# Altium footprint library IHLP2525CZER4R7M01.PcbLib: 3 footprints
Each footprint in its own frame and in the unit in brackets; x right, y up, seen from the top. Pads: shape width x height; smd on the part's side, far side on the other; paste and mask are expansions set on the pad; w line width, h text height; cw(c..) or ccw(c..) is an arc to the next point about the centre after c.
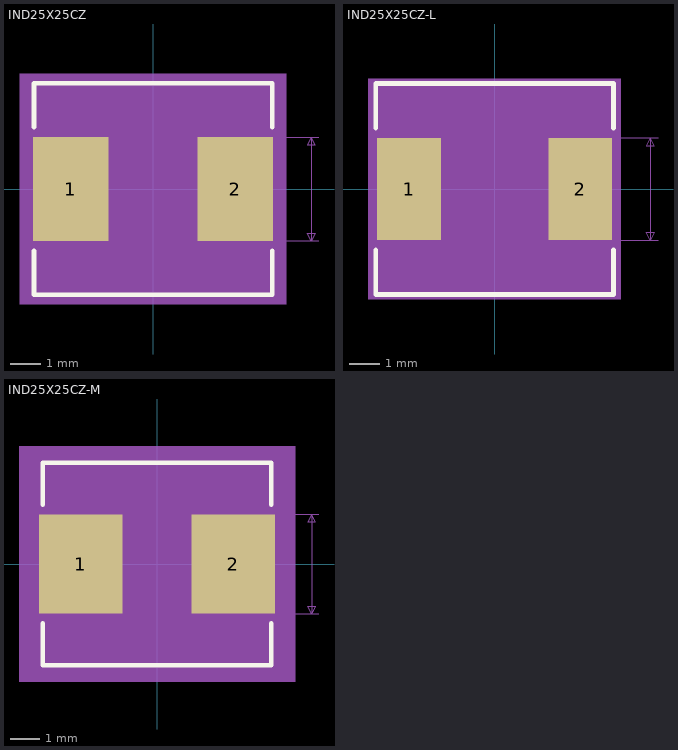
[diagram p0: the footprints below, top view; thin cyan lines are the x and y axes]

## IND25X25CZ [mil]
pads (2):
  rect 98x135 smd: 1(-107,0) 2(107,0)
Top Overlay:
  lines w6: -155,-80.6 -155,-137.5 155,-137.5 155,-80.6 ; -155,80.6 -155,137.5 155,137.5 155,80.6
Mechanical 5:
  region: 173.5,-150 -173.5,-150 -173.5,150 173.5,150
Mechanical 7:
  lines w1: -156,77.5 -156,127.5 ; -58,-127.5 -58,-77.5 ; 58,-127.5 58,-77.5 ; 156,77.5 156,127.5 ; 166,-67.5 216,-67.5 ; 166,67.5 216,67.5 ; -156,117.5 156,117.5 ; -156,117.5 -146,122.5 -146,112.5 -156,117.5 ; -58,-117.5 58,-117.5 ; -58,-117.5 -48,-122.5 -48,-112.5 -58,-117.5 ; 58,-117.5 48,-122.5 48,-112.5 58,-117.5 ; 156,117.5 146,122.5 146,112.5 156,117.5 ; 206,-67.5 206,67.5 ; 206,-67.5 201,-57.5 211,-57.5 206,-67.5 ; 206,67.5 201,57.5 211,57.5 206,67.5
  text "Default Padstyle: RX98Y135D0T" at -362.5,-237.5 h50
  text "Alt 1 Padstyle: OX60Y90D30P" at -337.5,-297.5 h50
  text "Alt 2 Padstyle: OX90Y60D30P" at -337.5,-357.5 h50
  text ".312in/7.925mm" at -87.5,117.5 h25
  text ".116in/2.946mm" at -87.5,-152.5 h25
  text ".135in/3.429mm" at 216,-12.5 h25
Mechanical 13:
  lines w1: -150,-132.5 150,-132.5 150,132.5 -150,132.5 -150,-132.5
Mechanical 15:
  region: -160,-77.5 -166,-77.5 -166,77.5 -160,77.5 -160,142.5 160,142.5 160,77.5 166,77.5 166,-77.5 160,-77.5 160,-142.5 -160,-142.5
  region: 150,-132.5 -150,-132.5 -150,132.5 150,132.5
  lines w6: -166,-77.5 -166,77.5 -160,77.5 -160,142.5 160,142.5 160,77.5 166,77.5 166,-77.5 160,-77.5 160,-142.5 -160,-142.5 -160,-77.5 -166,-77.5
3D body: height 10, standoff 0, extent 0,0 10,10

## IND25X25CZ-L [mil]
pads (2):
  rect 83x133 smd paste+0 mask+0: 1(-111.5,0) 2(111.5,0)
Top Overlay:
  lines w6: -155,-79.45 -155,-137.5 155,-137.5 155,-79.45 ; -155,79.45 -155,137.5 155,137.5 155,79.45
Mechanical 5:
  region: 164.5,-144 -164.5,-144 -164.5,144 164.5,144
Mechanical 7:
  lines w1: -153,76.5 -153,126.5 ; -70,-126.5 -70,-76.5 ; 70,-126.5 70,-76.5 ; 153,76.5 153,126.5 ; 163,-66.5 213,-66.5 ; 163,66.5 213,66.5 ; -153,116.5 153,116.5 ; -153,116.5 -143,121.5 -143,111.5 -153,116.5 ; -70,-116.5 70,-116.5 ; -70,-116.5 -60,-121.5 -60,-111.5 -70,-116.5 ; 70,-116.5 60,-121.5 60,-111.5 70,-116.5 ; 153,116.5 143,121.5 143,111.5 153,116.5 ; 203,-66.5 203,66.5 ; 203,-66.5 198,-56.5 208,-56.5 203,-66.5 ; 203,66.5 198,56.5 208,56.5 203,66.5
  text "Default Padstyle: RX83Y133D0T" at -362.5,-236.5 h50
  text "Alt 1 Padstyle: OX60Y90D30P" at -337.5,-296.5 h50
  text "Alt 2 Padstyle: OX90Y60D30P" at -337.5,-356.5 h50
  text ".306in/7.772mm" at -87.5,116.5 h25
  text ".14in/3.556mm" at -81.25,-151.5 h25
  text ".133in/3.378mm" at 213,-12.5 h25
Mechanical 13:
  lines w1: -150,-132.5 150,-132.5 150,132.5 -150,132.5 -150,-132.5
Mechanical 15:
  region: -154,-71.5 -157,-71.5 -157,71.5 -154,71.5 -154,136.5 154,136.5 154,71.5 157,71.5 157,-71.5 154,-71.5 154,-136.5 -154,-136.5
  region: 150,-132.5 -150,-132.5 -150,132.5 150,132.5
  lines w6: -157,-71.5 -157,71.5 -154,71.5 -154,136.5 154,136.5 154,71.5 157,71.5 157,-71.5 154,-71.5 154,-136.5 -154,-136.5 -154,-71.5 -157,-71.5
3D body: height 10, standoff 0, extent 0,0 10,10

## IND25X25CZ-M [mil]
pads (2):
  rect 113x135 smd paste+0 mask+0: 1(-103.5,0) 2(103.5,0)
Top Overlay:
  lines w6: -155,-80.6 -155,-137.5 155,-137.5 155,-80.6 ; -155,80.6 -155,137.5 155,137.5 155,80.6
Mechanical 5:
  region: 187.5,-160 -187.5,-160 -187.5,160 187.5,160
Mechanical 7:
  lines w1: -160,77.5 -160,127.5 ; -47,-127.5 -47,-77.5 ; 47,-127.5 47,-77.5 ; 160,77.5 160,127.5 ; 170,-67.5 220,-67.5 ; 170,67.5 220,67.5 ; -160,117.5 160,117.5 ; -160,117.5 -150,122.5 -150,112.5 -160,117.5 ; -47,-117.5 47,-117.5 ; -47,-117.5 -37,-122.5 -37,-112.5 -47,-117.5 ; 47,-117.5 37,-122.5 37,-112.5 47,-117.5 ; 160,117.5 150,122.5 150,112.5 160,117.5 ; 210,-67.5 210,67.5 ; 210,-67.5 205,-57.5 215,-57.5 210,-67.5 ; 210,67.5 205,57.5 215,57.5 210,67.5
  text "Default Padstyle: RX113Y135D0T" at -375,-237.5 h50
  text "Alt 1 Padstyle: OX60Y90D30P" at -337.5,-297.5 h50
  text "Alt 2 Padstyle: OX90Y60D30P" at -337.5,-357.5 h50
  text ".32in/8.128mm" at -81.25,117.5 h25
  text ".094in/2.388mm" at -87.5,-152.5 h25
  text ".135in/3.429mm" at 220,-12.5 h25
Mechanical 13:
  lines w1: -150,-132.5 150,-132.5 150,132.5 -150,132.5 -150,-132.5
Mechanical 15:
  region: -170,-87.5 -180,-87.5 -180,87.5 -170,87.5 -170,152.5 170,152.5 170,87.5 180,87.5 180,-87.5 170,-87.5 170,-152.5 -170,-152.5
  region: 150,-132.5 -150,-132.5 -150,132.5 150,132.5
  lines w6: -180,-87.5 -180,87.5 -170,87.5 -170,152.5 170,152.5 170,87.5 180,87.5 180,-87.5 170,-87.5 170,-152.5 -170,-152.5 -170,-87.5 -180,-87.5
3D body: height 10, standoff 0, extent 0,0 10,10